# Altium footprint library 4_smd_2.0x1.6mm.PcbLib: 1 footprints
Each footprint in its own frame and in the unit in brackets; x right, y up, seen from the top. Pads: shape width x height; smd on the part's side, far side on the other; paste and mask are expansions set on the pad; w line width, h text height; cw(c..) or ccw(c..) is an arc to the next point about the centre after c.
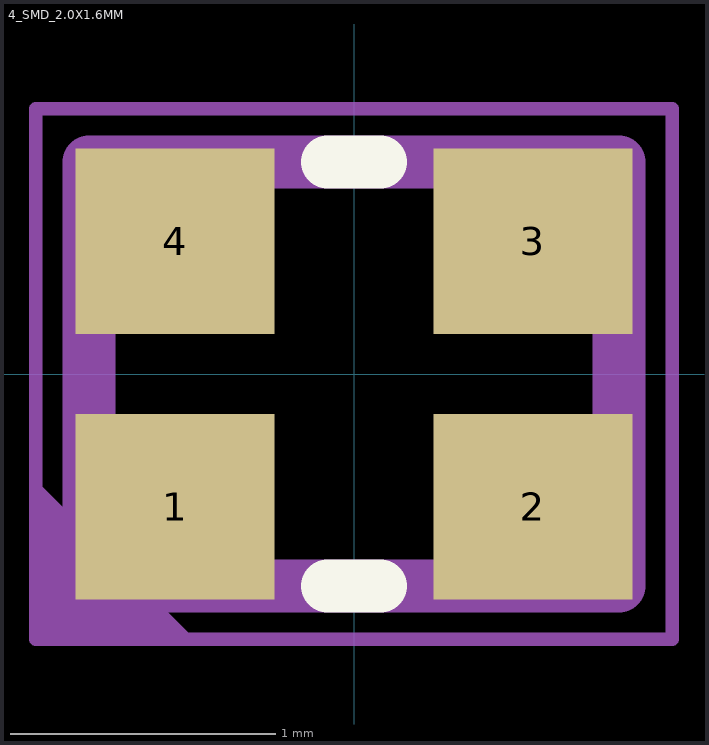
[diagram p0: the footprint, top view; thin cyan lines are the x and y axes]

## 4_SMD_2.0X1.6MM [mm]
pads (4):
  rect 0.75x0.7 smd: 1(-0.675,-0.5) 2(0.675,-0.5) 3(0.675,0.5) 4(-0.675,0.5)
Top Overlay:
  lines w0.2: -0.1,-0.8 0.1,-0.8 ; -0.1,0.8 0.1,0.8
Top Designator:
  text ".Designator" at -1.08,-0.22 h0.48
Top 3D Body:
  lines w0.2: -1,-0.8 1,-0.8 1,0.8 -1,0.8 -1,-0.8
Top Courtyard:
  region: -1.2,-1 -0.6,-1 -1.2,-0.4
  lines w0.051: -1.2,-1 1.2,-1 1.2,1 -1.2,1 -1.2,-1
3D body "XRCGB25M000F3A00R0.STEP": height 0.71, standoff 0.01, extent -1,-0.8 1,0.8